# Altium schematic symbol library Zynq_SOM.SchLib: 4 symbols
Pins are listed as number, name and electrical type; pins without a type are passive.

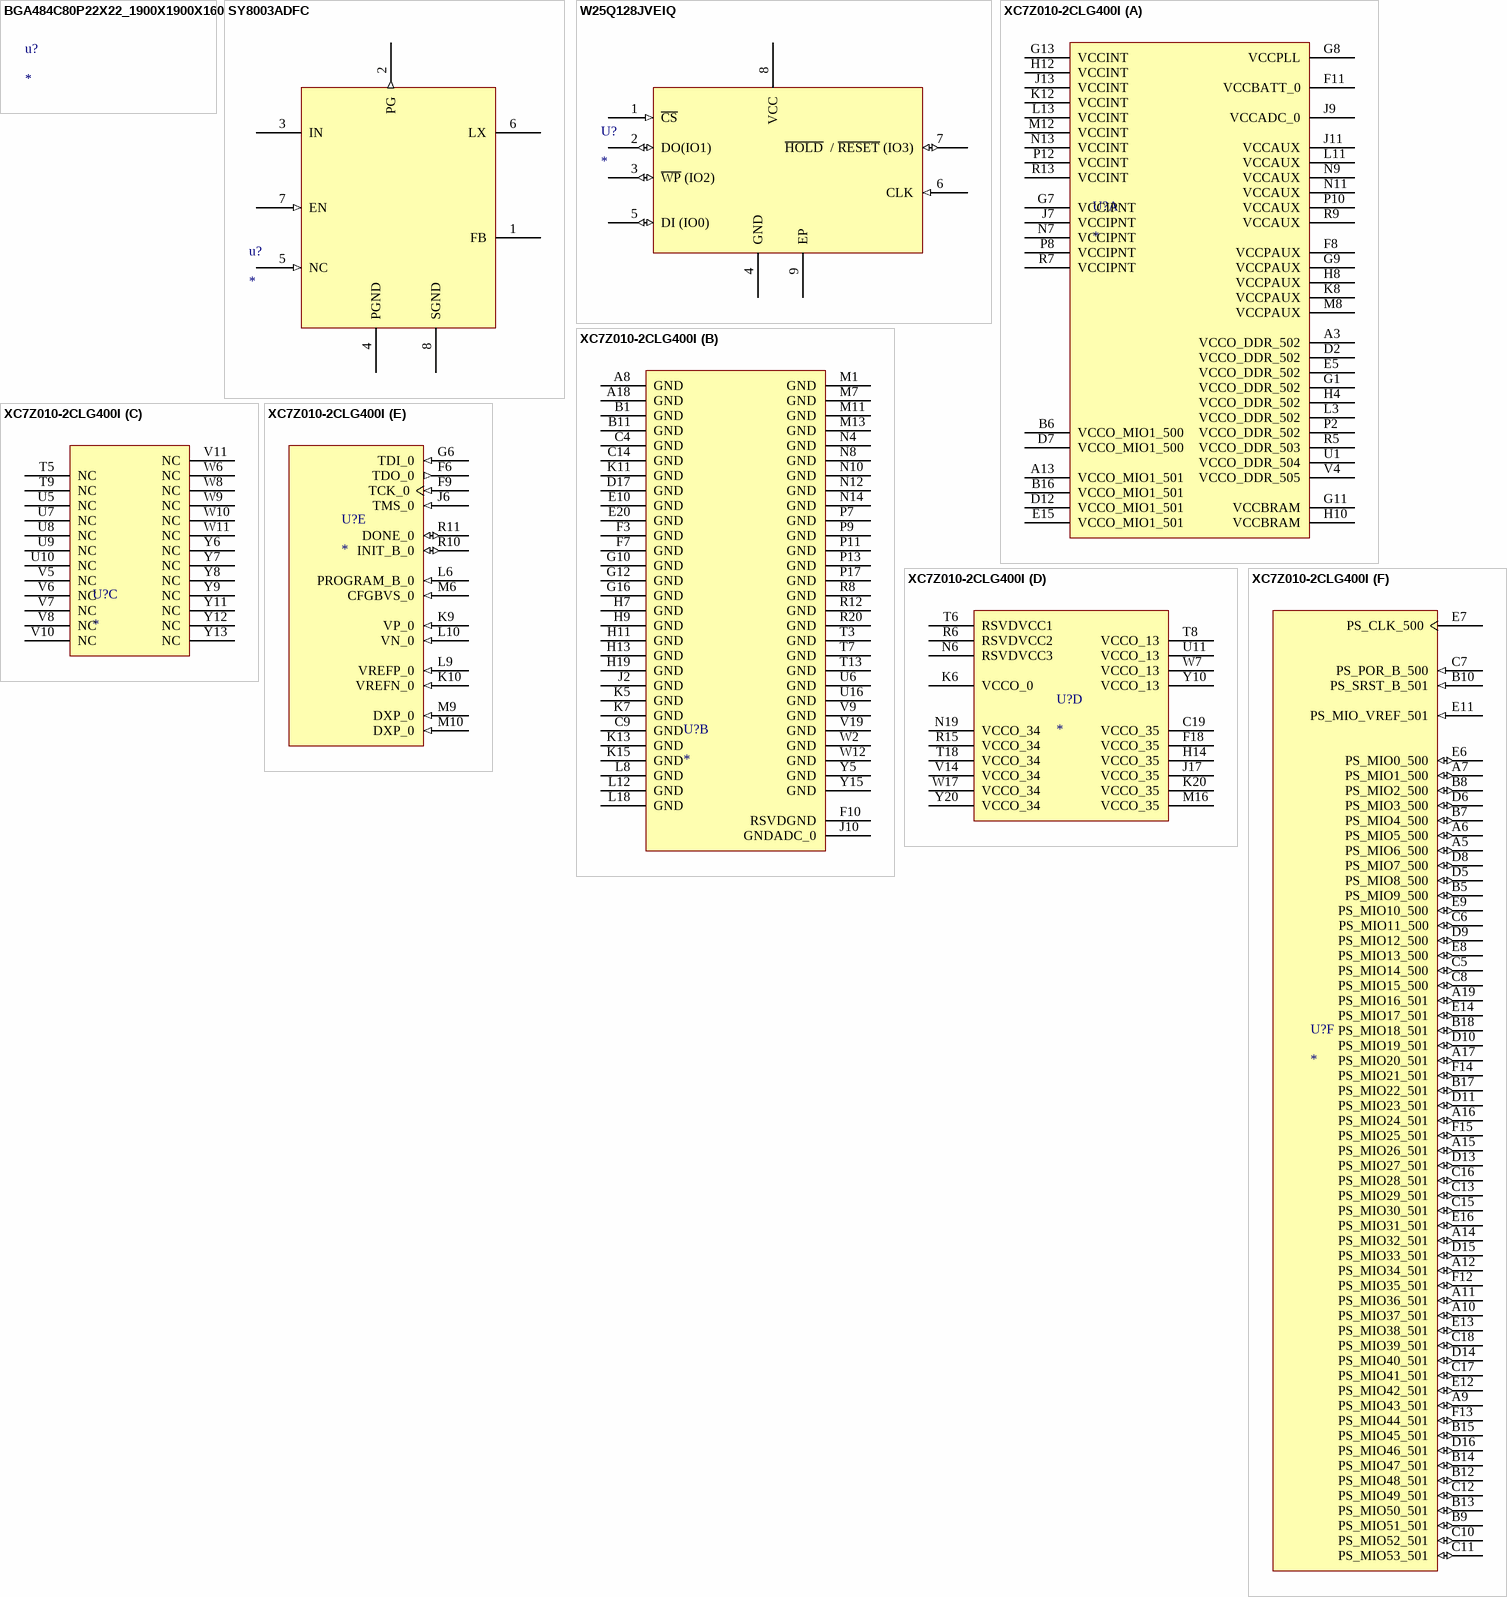
[diagram p0: symbols BGA484C80P22X22_1900X1900X160 to XC7Z010-2CLG400I]

## BGA484C80P22X22_1900X1900X160
designator u?
Dual ARMÂ® CortexÂ®-A9 MPCoreâ„¢ with CoreSightâ„¢ System On Chip (SOC) IC ZynqÂ®-7000 Artixâ„¢-7 FPGA, 74K Logic Cells 667MHz 484-CSPBGA (19x19)

## SY8003ADFC
designator u?
1MHz 3A Buck Adjustable 1 DFN-8(2x2) Voltage Regulators - DC DC Switching Regulators RoHS
footprint SY8003ADFC
pins: 1 FB, 2 PG (out), 3 IN (power), 4 PGND (power), 5 NC  (in), 6 LX, 7 EN  (in), 8 SGND (power)

## W25Q128JVEIQ
designator U?
IC FLASH 128MBIT SPI/QUAD 8WSON
footprint W25Q128JVEIQ-ND
pins: 1 ~{CS} (in), 2 DO(IO1) (io), 3 ~{WP} (IO2) (io), 4 GND (power), 5 DI (IO0) (io), 6 CLK (in), 7 ~{HOLD}  / ~{RESET} (IO3) (io), 8 VCC (power), 9 EP (power)

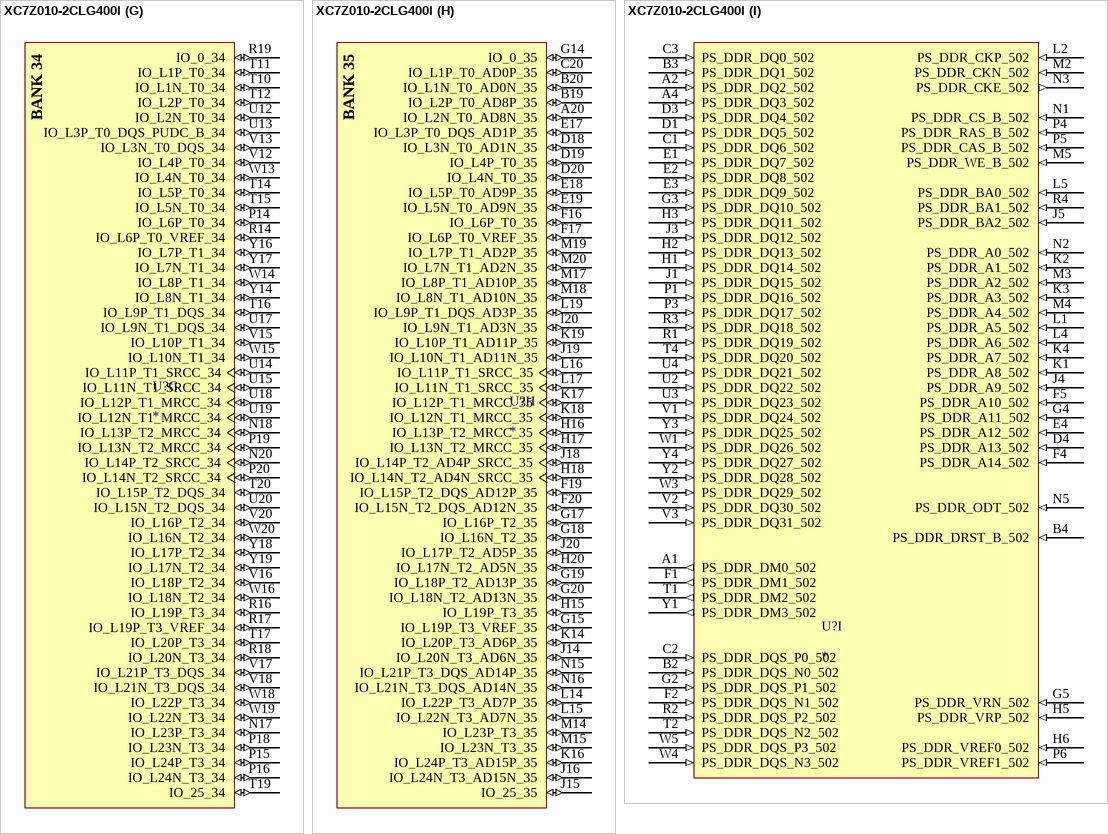
[diagram p1: symbol XC7Z010-2CLG400I]

## XC7Z010-2CLG400I
designator U?
footprint BGA400C80P20X20_1700X1700X160N
part A pins: A3 VCCO_DDR_502, A13 VCCO_MIO1_501, B6 VCCO_MIO1_500, B16 VCCO_MIO1_501, D2 VCCO_DDR_502, D7 VCCO_MIO1_500, D12 VCCO_MIO1_501, E5 VCCO_DDR_502, E15 VCCO_MIO1_501, F8 VCCPAUX, F11 VCCBATT_0, G1 VCCO_DDR_502, G7 VCCIPNT, G8 VCCPLL, G9 VCCPAUX, G11 VCCBRAM, G13 VCCINT, H4 VCCO_DDR_502, H8 VCCPAUX, H10 VCCBRAM, H12 VCCINT, J7 VCCIPNT, J9 VCCADC_0, J11 VCCAUX, J13 VCCINT, K8 VCCPAUX, K12 VCCINT, L3 VCCO_DDR_502, L11 VCCAUX, L13 VCCINT, M8 VCCPAUX, M12 VCCINT, N7 VCCIPNT, N9 VCCAUX, N11 VCCAUX, N13 VCCINT, P2 VCCO_DDR_502, P8 VCCIPNT, P10 VCCAUX, P12 VCCINT, R5 VCCO_DDR_503, R7 VCCIPNT, R9 VCCAUX, R13 VCCINT, U1 VCCO_DDR_504, V4 VCCO_DDR_505
part B pins: A8 GND, A18 GND, B1 GND, B11 GND, C4 GND, C9 GND, C14 GND, D17 GND, E10 GND, E20 GND, F3 GND, F7 GND, F10 RSVDGND, G10 GND, G12 GND, G16 GND, H7 GND, H9 GND, H11 GND, H13 GND, H19 GND, J2 GND, J10 GNDADC_0, K5 GND, K7 GND, K11 GND, K13 GND, K15 GND, L8 GND, L12 GND, L18 GND, M1 GND, M7 GND, M11 GND, M13 GND, N4 GND, N8 GND, N10 GND, N12 GND, N14 GND, P7 GND, P9 GND, P11 GND, P13 GND, P17 GND, R8 GND, R12 GND, R20 GND, T3 GND, T7 GND, T13 GND, U6 GND, U16 GND, V9 GND, V19 GND, W2 GND, W12 GND, Y5 GND, Y15 GND
part C pins: T5 NC, T9 NC, U5 NC, U7 NC, U8 NC, U9 NC, U10 NC, V5 NC, V6 NC, V7 NC, V8 NC, V10 NC, V11 NC, W6 NC, W8 NC, W9 NC, W10 NC, W11 NC, Y6 NC, Y7 NC, Y8 NC, Y9 NC, Y11 NC, Y12 NC, Y13 NC
part D pins: C19 VCCO_35, F18 VCCO_35, H14 VCCO_35, J17 VCCO_35, K6 VCCO_0, K20 VCCO_35, M16 VCCO_35, N6 RSVDVCC3, N19 VCCO_34, R6 RSVDVCC2, R15 VCCO_34, T6 RSVDVCC1, T8 VCCO_13, T18 VCCO_34, U11 VCCO_13, V14 VCCO_34, W7 VCCO_13, W17 VCCO_34, Y10 VCCO_13, Y20 VCCO_34
part E pins: F6 TDO_0 (out), F9 TCK_0 (in), G6 TDI_0 (in), J6 TMS_0 (in), K9 VP_0 (in), K10 VREFN_0 (in), L6 PROGRAM_B_0 (in), L9 VREFP_0 (in), L10 VN_0 (in), M6 CFGBVS_0 (in), M9 DXP_0 (in), M10 DXP_0 (in), R10 INIT_B_0 (io), R11 DONE_0 (io)
part F pins: A5 PS_MIO6_500 (io), A6 PS_MIO5_500 (io), A7 PS_MIO1_500 (io), A9 PS_MIO43_501 (io), A10 PS_MIO37_501 (io), A11 PS_MIO36_501 (io), A12 PS_MIO34_501 (io), A14 PS_MIO32_501 (io), A15 PS_MIO26_501 (io), A16 PS_MIO24_501 (io), A17 PS_MIO20_501 (io), A19 PS_MIO16_501 (io), B5 PS_MIO9_500 (io), B7 PS_MIO4_500 (io), B8 PS_MIO2_500 (io), B9 PS_MIO51_501 (io), B10 PS_SRST_B_501 (in), B12 PS_MIO48_501 (io), B13 PS_MIO50_501 (io), B14 PS_MIO47_501 (io), B15 PS_MIO45_501 (io), B17 PS_MIO22_501 (io), B18 PS_MIO18_501 (io), C5 PS_MIO14_500 (io), C6 PS_MIO11_500 (io), C7 PS_POR_B_500 (in), C8 PS_MIO15_500 (io), C10 PS_MIO52_501 (io), C11 PS_MIO53_501 (io), C12 PS_MIO49_501 (io), C13 PS_MIO29_501 (io), C15 PS_MIO30_501 (io), C16 PS_MIO28_501 (io), C17 PS_MIO41_501 (io), C18 PS_MIO39_501 (io), D5 PS_MIO8_500 (io), D6 PS_MIO3_500 (io), D8 PS_MIO7_500 (io), D9 PS_MIO12_500 (io), D10 PS_MIO19_501 (io), D11 PS_MIO23_501 (io), D13 PS_MIO27_501 (io), D14 PS_MIO40_501 (io), D15 PS_MIO33_501 (io), D16 PS_MIO46_501 (io), E6 PS_MIO0_500 (io), E7 PS_CLK_500, E8 PS_MIO13_500 (io), E9 PS_MIO10_500 (io), E11 PS_MIO_VREF_501 (in), E12 PS_MIO42_501 (io), E13 PS_MIO38_501 (io), E14 PS_MIO17_501 (io), E16 PS_MIO31_501 (io), F12 PS_MIO35_501 (io), F13 PS_MIO44_501 (io), F14 PS_MIO21_501 (io), F15 PS_MIO25_501 (io)
part G pins: N17 IO_L23P_T3_34 (io), N18 IO_L13P_T2_MRCC_34 (io), N20 IO_L14P_T2_SRCC_34 (io), P14 IO_L6P_T0_34 (io), P15 IO_L24P_T3_34 (io), P16 IO_L24N_T3_34 (io), P18 IO_L23N_T3_34 (io), P19 IO_L13N_T2_MRCC_34 (io), P20 IO_L14N_T2_SRCC_34 (io), R14 IO_L6P_T0_VREF_34 (io), R16 IO_L19P_T3_34 (io), R17 IO_L19P_T3_VREF_34 (io), R18 IO_L20N_T3_34 (io), R19 IO_0_34 (io), T10 IO_L1N_T0_34 (io), T11 IO_L1P_T0_34 (io), T12 IO_L2P_T0_34 (io), T14 IO_L5P_T0_34 (io), T15 IO_L5N_T0_34 (io), T16 IO_L9P_T1_DQS_34 (io), T17 IO_L20P_T3_34 (io), T19 IO_25_34 (io), T20 IO_L15P_T2_DQS_34 (io), U12 IO_L2N_T0_34 (io), U13 IO_L3P_T0_DQS_PUDC_B_34 (io), U14 IO_L11P_T1_SRCC_34 (io), U15 IO_L11N_T1_SRCC_34 (io), U17 IO_L9N_T1_DQS_34 (io), U18 IO_L12P_T1_MRCC_34 (io), U19 IO_L12N_T1_MRCC_34 (io), U20 IO_L15N_T2_DQS_34 (io), V12 IO_L4P_T0_34 (io), V13 IO_L3N_T0_DQS_34 (io), V15 IO_L10P_T1_34 (io), V16 IO_L18P_T2_34 (io), V17 IO_L21P_T3_DQS_34 (io), V18 IO_L21N_T3_DQS_34 (io), V20 IO_L16P_T2_34 (io), W13 IO_L4N_T0_34 (io), W14 IO_L8P_T1_34 (io), W15 IO_L10N_T1_34 (io), W16 IO_L18N_T2_34 (io), W18 IO_L22P_T3_34 (io), W19 IO_L22N_T3_34 (io), W20 IO_L16N_T2_34 (io), Y14 IO_L8N_T1_34 (io), Y16 IO_L7P_T1_34 (io), Y17 IO_L7N_T1_34 (io), Y18 IO_L17P_T2_34 (io), Y19 IO_L17N_T2_34 (io)
part H pins: A20 IO_L2N_T0_AD8N_35 (io), B19 IO_L2P_T0_AD8P_35 (io), B20 IO_L1N_T0_AD0N_35 (io), C20 IO_L1P_T0_AD0P_35 (io), D18 IO_L3N_T0_AD1N_35 (io), D19 IO_L4P_T0_35 (io), D20 IO_L4N_T0_35 (io), E17 IO_L3P_T0_DQS_AD1P_35 (io), E18 IO_L5P_T0_AD9P_35 (io), E19 IO_L5N_T0_AD9N_35 (io), F16 IO_L6P_T0_35 (io), F17 IO_L6P_T0_VREF_35 (io), F19 IO_L15P_T2_DQS_AD12P_35 (io), F20 IO_L15N_T2_DQS_AD12N_35 (io), G14 IO_0_35 (io), G15 IO_L19P_T3_VREF_35 (io), G17 IO_L16P_T2_35 (io), G18 IO_L16N_T2_35 (io), G19 IO_L18P_T2_AD13P_35 (io), G20 IO_L18N_T2_AD13N_35 (io), H15 IO_L19P_T3_35 (io), H16 IO_L13P_T2_MRCC_35 (io), H17 IO_L13N_T2_MRCC_35 (io), H18 IO_L14N_T2_AD4N_SRCC_35 (io), H20 IO_L17N_T2_AD5N_35 (io), J14 IO_L20N_T3_AD6N_35 (io), J15 IO_25_35 (io), J16 IO_L24N_T3_AD15N_35 (io), J18 IO_L14P_T2_AD4P_SRCC_35 (io), J19 IO_L10N_T1_AD11N_35 (io), J20 IO_L17P_T2_AD5P_35 (io), K14 IO_L20P_T3_AD6P_35 (io), K16 IO_L24P_T3_AD15P_35 (io), K17 IO_L12P_T1_MRCC_35 (io), K18 IO_L12N_T1_MRCC_35 (io), K19 IO_L10P_T1_AD11P_35 (io), L14 IO_L22P_T3_AD7P_35 (io), L15 IO_L22N_T3_AD7N_35 (io), L16 IO_L11P_T1_SRCC_35 (io), L17 IO_L11N_T1_SRCC_35 (io), L19 IO_L9P_T1_DQS_AD3P_35 (io), l20 IO_L9N_T1_AD3N_35 (io), M14 IO_L23P_T3_35 (io), M15 IO_L23N_T3_35 (io), M17 IO_L8P_T1_AD10P_35 (io), M18 IO_L8N_T1_AD10N_35 (io), M19 IO_L7P_T1_AD2P_35 (io), M20 IO_L7N_T1_AD2N_35 (io), N15 IO_L21P_T3_DQS_AD14P_35 (io), N16 IO_L21N_T3_DQS_AD14N_35 (io)
part I pins: A1 PS_DDR_DM0_502 (out), A2 PS_DDR_DQ2_502 (in), A4 PS_DDR_DQ3_502 (in), B2 PS_DDR_DQS_N0_502 (in), B3 PS_DDR_DQ1_502 (in), B4 PS_DDR_DRST_B_502 (in), C1 PS_DDR_DQ6_502 (in), C2 PS_DDR_DQS_P0_502 (in), C3 PS_DDR_DQ0_502 (in), D1 PS_DDR_DQ5_502 (in), D3 PS_DDR_DQ4_502 (in), D4 PS_DDR_A13_502 (in), E1 PS_DDR_DQ7_502 (in), E2 PS_DDR_DQ8_502 (in), E3 PS_DDR_DQ9_502 (in), E4 PS_DDR_A12_502 (in), F1 PS_DDR_DM1_502 (out), F2 PS_DDR_DQS_N1_502 (in), F4 PS_DDR_A14_502 (in), F5 PS_DDR_A10_502 (in), G2 PS_DDR_DQS_P1_502 (in), G3 PS_DDR_DQ10_502 (in), G4 PS_DDR_A11_502 (in), G5 PS_DDR_VRN_502 (in), H1 PS_DDR_DQ14_502 (in), H2 PS_DDR_DQ13_502 (in), H3 PS_DDR_DQ11_502 (in), H5 PS_DDR_VRP_502 (in), H6 PS_DDR_VREF0_502 (in), J1 PS_DDR_DQ15_502 (in), J3 PS_DDR_DQ12_502 (in), J4 PS_DDR_A9_502 (in), J5 PS_DDR_BA2_502 (in), K1 PS_DDR_A8_502 (in), K2 PS_DDR_A1_502 (in), K3 PS_DDR_A3_502 (in), K4 PS_DDR_A7_502 (in), L1 PS_DDR_A5_502 (in), L2 PS_DDR_CKP_502 (in), L4 PS_DDR_A6_502 (in), L5 PS_DDR_BA0_502 (in), M2 PS_DDR_CKN_502 (in), M3 PS_DDR_A2_502 (in), M4 PS_DDR_A4_502 (in), M5 PS_DDR_WE_B_502 (in), N1 PS_DDR_CS_B_502 (in), N2 PS_DDR_A0_502 (in), N3 PS_DDR_CKE_502 (out), N5 PS_DDR_ODT_502 (in), P1 PS_DDR_DQ16_502 (in), P3 PS_DDR_DQ17_502 (in), P4 PS_DDR_RAS_B_502 (in), P5 PS_DDR_CAS_B_502 (in), P6 PS_DDR_VREF1_502 (in), R1 PS_DDR_DQ19_502 (in), R2 PS_DDR_DQS_P2_502 (in), R3 PS_DDR_DQ18_502 (in), R4 PS_DDR_BA1_502 (in), T1 PS_DDR_DM2_502 (out), T2 PS_DDR_DQS_N2_502 (in), T4 PS_DDR_DQ20_502 (in), U2 PS_DDR_DQ22_502 (in), U3 PS_DDR_DQ23_502 (in), U4 PS_DDR_DQ21_502 (in), V1 PS_DDR_DQ24_502 (in), V2 PS_DDR_DQ30_502 (in), V3 PS_DDR_DQ31_502 (in), W1 PS_DDR_DQ26_502 (in), W3 PS_DDR_DQ29_502 (in), W4 PS_DDR_DQS_N3_502 (in), W5 PS_DDR_DQS_P3_502 (in), Y1 PS_DDR_DM3_502 (out), Y2 PS_DDR_DQ28_502 (in), Y3 PS_DDR_DQ25_502 (in), Y4 PS_DDR_DQ27_502 (in)
part G text: BANK 34
part H text: BANK 35